# EAGLE library part ACPL-0820-000E (library Avago_By_element14_Batch_1)
High Current Dual Line-Driver IC
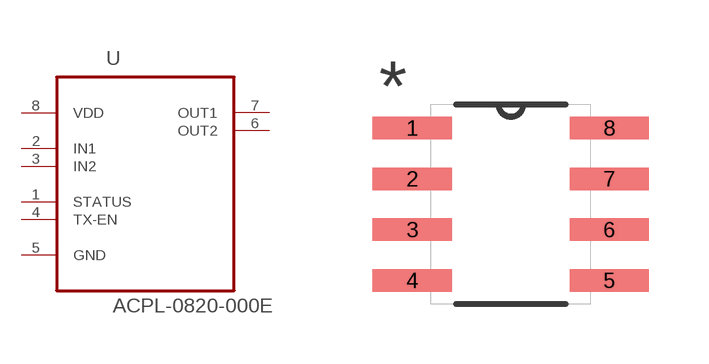
[diagram p2: symbol with the pads of SOIC127P600X175-8N; footprint SOIC127P600X175-8N]

Designator prefix U

## ACPL-0820-000E (DESCRIPTION: High Current Dual Line-Driver IC; MPN: ACPL-0820-000E; OC_FARNELL: 1854249; OC_NEWARK: 19M9301; PACKAGE: SOIC-8; SUPPLIER: AVAGO TECHNOLOGIES)  [SOIC127P600X175-8N]
1  STATUS  out
2  IN1  in
3  IN2  in
4  TX-EN  in
5  GND  pas
6  OUT2  out
7  OUT1  out
8  VDD  pwr

## Footprint SOIC127P600X175-8N (pad centres in mm)
smd 1.981 x 0.559: 1 -2.464,1.905; 2 -2.464,0.635; 3 -2.464,-0.635; 4 -2.464,-1.905; 5 2.464,-1.905; 6 2.464,-0.635; 7 2.464,0.635; 8 2.464,1.905